# EAGLE library part LT1054 (library kamiki)
Switched-Capacitor Voltage Converters with Regulators
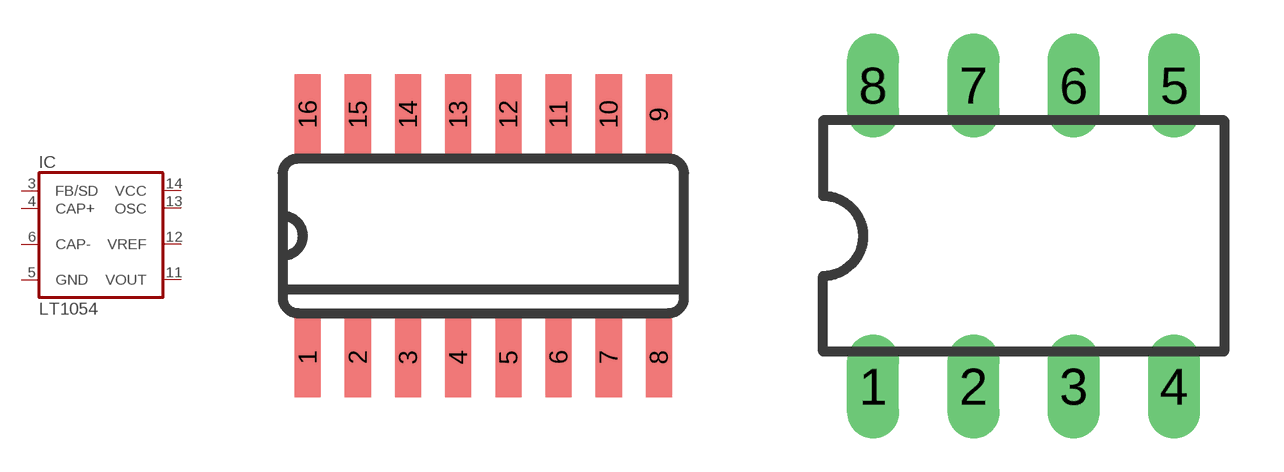
[diagram p20: symbol with the pads of SO16; footprints SO16, DIL-08]

Designator prefix IC

## LT1054DW/N  [SO16]
3  FB/SD  pas
4  CAP+  pas
5  GND  pwr
6  CAP-  pas
11  VOUT  pas
12  VREF  pas
13  OSC  pas
14  VCC  pwr

## LT1054P  [DIL-08]
1  FB/SD  pas
2  CAP+  pas
3  GND  pwr
4  CAP-  pas
5  VOUT  pas
6  VREF  pas
7  OSC  pas
8  VCC  pwr

## LT1054DW  [SO16W]
Pads as for SO16

## Footprint SO16 (pad centres in mm)
Small Outline Package
smd 0.66 x 2.032: 1 -4.445,-3.073; 2 -3.175,-3.073; 3 -1.905,-3.073; 4 -0.635,-3.073; 5 0.635,-3.073; 6 1.905,-3.073; 7 3.175,-3.073; 8 4.445,-3.073; 9 4.445,3.073; 10 3.175,3.073; 11 1.905,3.073; 12 0.635,3.073; 13 -0.635,3.073; 14 -1.905,3.073; 15 -3.175,3.073; 16 -4.445,3.073

## Footprint DIL-08 (pad centres in mm)
Dual In Line Package
drill 0.813 long: 1 -3.81,-3.81; 2 -1.27,-3.81; 3 1.27,-3.81; 4 3.81,-3.81; 5 3.81,3.81; 6 1.27,3.81; 7 -1.27,3.81; 8 -3.81,3.81

## Footprint SO16W (pad centres in mm)
SMALL OUTLINE INTEGRATED CIRCUIT wide body 7.5 mm/JEDEC MS-013AA
smd 0.6 x 2.2: 1 -4.445,-4.6; 2 -3.175,-4.6; 3 -1.905,-4.6; 4 -0.635,-4.6; 5 0.635,-4.6; 6 1.905,-4.6; 7 3.175,-4.6; 8 4.445,-4.6; 9 4.445,4.6; 10 3.175,4.6; 11 1.905,4.6; 12 0.635,4.6; 13 -0.635,4.6; 14 -1.905,4.6; 15 -3.175,4.6; 16 -4.445,4.6